# EAGLE library part STM8L051F3P6 (library Deegou_IC)
Source: Datasheet <http://www.st.com/web/en/resource/technical/document/datasheet/DM00060484.pdf>
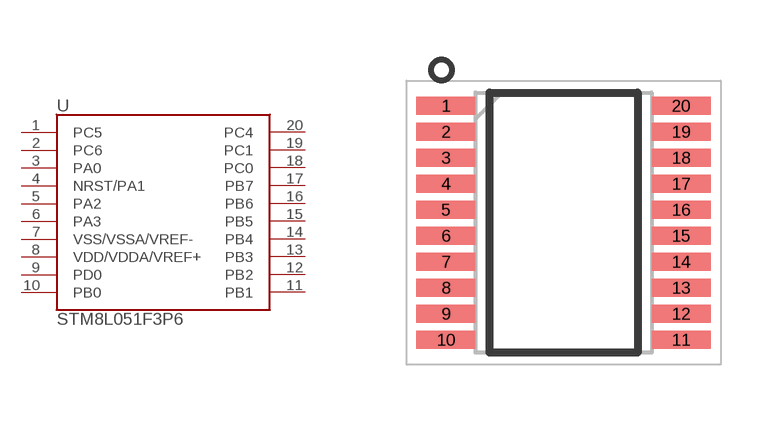
[diagram p54: symbol with the pads of SOP65P640X120-20N; footprint SOP65P640X120-20N]

Designator prefix U

## STM8L051F3P6 (ALLIED_NUMBER: 70521164; ALLIED_PRICE-STOCK: http://www.alliedelec.com/stmicroelectronics-stm8l051f3p6/70521164/; HEIGHT: 1.2mm; MANUFACTURER_NAME: STMicroelectronics; MANUFACTURER_PART_NUMBER: STM8L051F3P6; MOUSER_PART_NUMBER: 511-STM8L051F3P6; MOUSER_PRICE-STOCK: https://www.mouser.com/Search/Refine.aspx?Keyword=511-STM8L051F3P6; RS_PART_NUMBER: 1687233; RS_PRICE-STOCK: http://uk.rs-online.com/web/p/products/1687233)  [SOP65P640X120-20N]
1  PC5
2  PC6
3  PA0
4  NRST/PA1  in
5  PA2
6  PA3
7  VSS/VSSA/VREF-  pwr
8  VDD/VDDA/VREF+  pwr
9  PD0
10  PB0
11  PB1
12  PB2
13  PB3
14  PB4
15  PB5
16  PB6
17  PB7
18  PC0
19  PC1
20  PC4

## Footprint SOP65P640X120-20N (pad centres in mm)
PW (R-PDSO-G20)
smd 1.475 x 0.45: 1 -2.938,2.925; 2 -2.938,2.275; 3 -2.938,1.625; 4 -2.938,0.975; 5 -2.938,0.325; 6 -2.938,-0.325; 7 -2.938,-0.975; 8 -2.938,-1.625; 9 -2.938,-2.275; 10 -2.938,-2.925; 11 2.938,-2.925; 12 2.938,-2.275; 13 2.938,-1.625; 14 2.938,-0.975; 15 2.938,-0.325; 16 2.938,0.325; 17 2.938,0.975; 18 2.938,1.625; 19 2.938,2.275; 20 2.938,2.925